# Altium footprint library EVQPLHA15.PcbLib: 1 footprints
Each footprint in its own frame and in the unit in brackets; x right, y up, seen from the top. Pads: shape width x height; smd on the part's side, far side on the other; paste and mask are expansions set on the pad; w line width, h text height; cw(c..) or ccw(c..) is an arc to the next point about the centre after c.
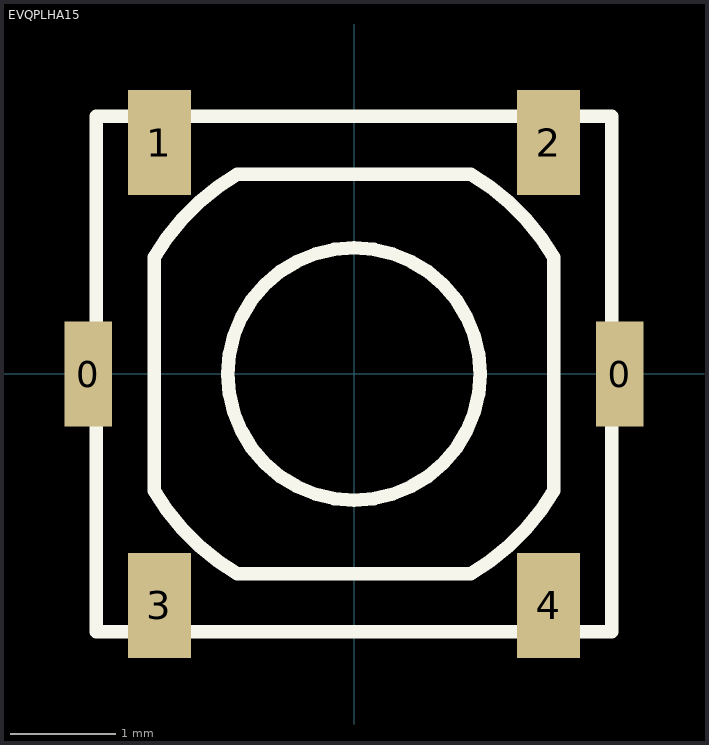
[diagram p0: the footprint, top view; thin cyan lines are the x and y axes]

## EVQPLHA15 [mm]
pads (6):
  rect 0.45x1 smd mask+0.051: 0(-2.525,0) 0(2.525,0)
  rect 0.6x1 smd mask+0.051: 1(-1.85,2.2) 2(1.85,2.2) 3(-1.85,-2.2) 4(1.85,-2.2)
Top Overlay:
  circle w0.127: c0,0 r1.2
  lines w0.127: -2.45,-2.45 -2.45,2.45 2.45,2.45 2.45,-2.45 -2.45,-2.45 ; -1.9,-1.109 ccw(c0,0) -1.109,-1.9 1.109,-1.9 ccw(c0,0) 1.9,-1.109 1.9,1.109 ccw(c0,0) 1.109,1.9 -1.109,1.9 ccw(c0,0) -1.9,1.109 -1.9,-1.109
3D body: height 0.8, standoff 0, extent -2.449,-2.449 2.449,2.449
3D body: height 1.2, standoff 0.8, extent -1.902,-1.902 1.902,1.902
3D body: height 1.5, standoff 0.8, extent -1.21,-1.21 1.21,1.21